# Altium footprint library smartbox1.PcbLib: 12 footprints
Each footprint in its own frame and in the unit in brackets; x right, y up, seen from the top. Pads: shape width x height; smd on the part's side, far side on the other; paste and mask are expansions set on the pad; w line width, h text height; cw(c..) or ccw(c..) is an arc to the next point about the centre after c.
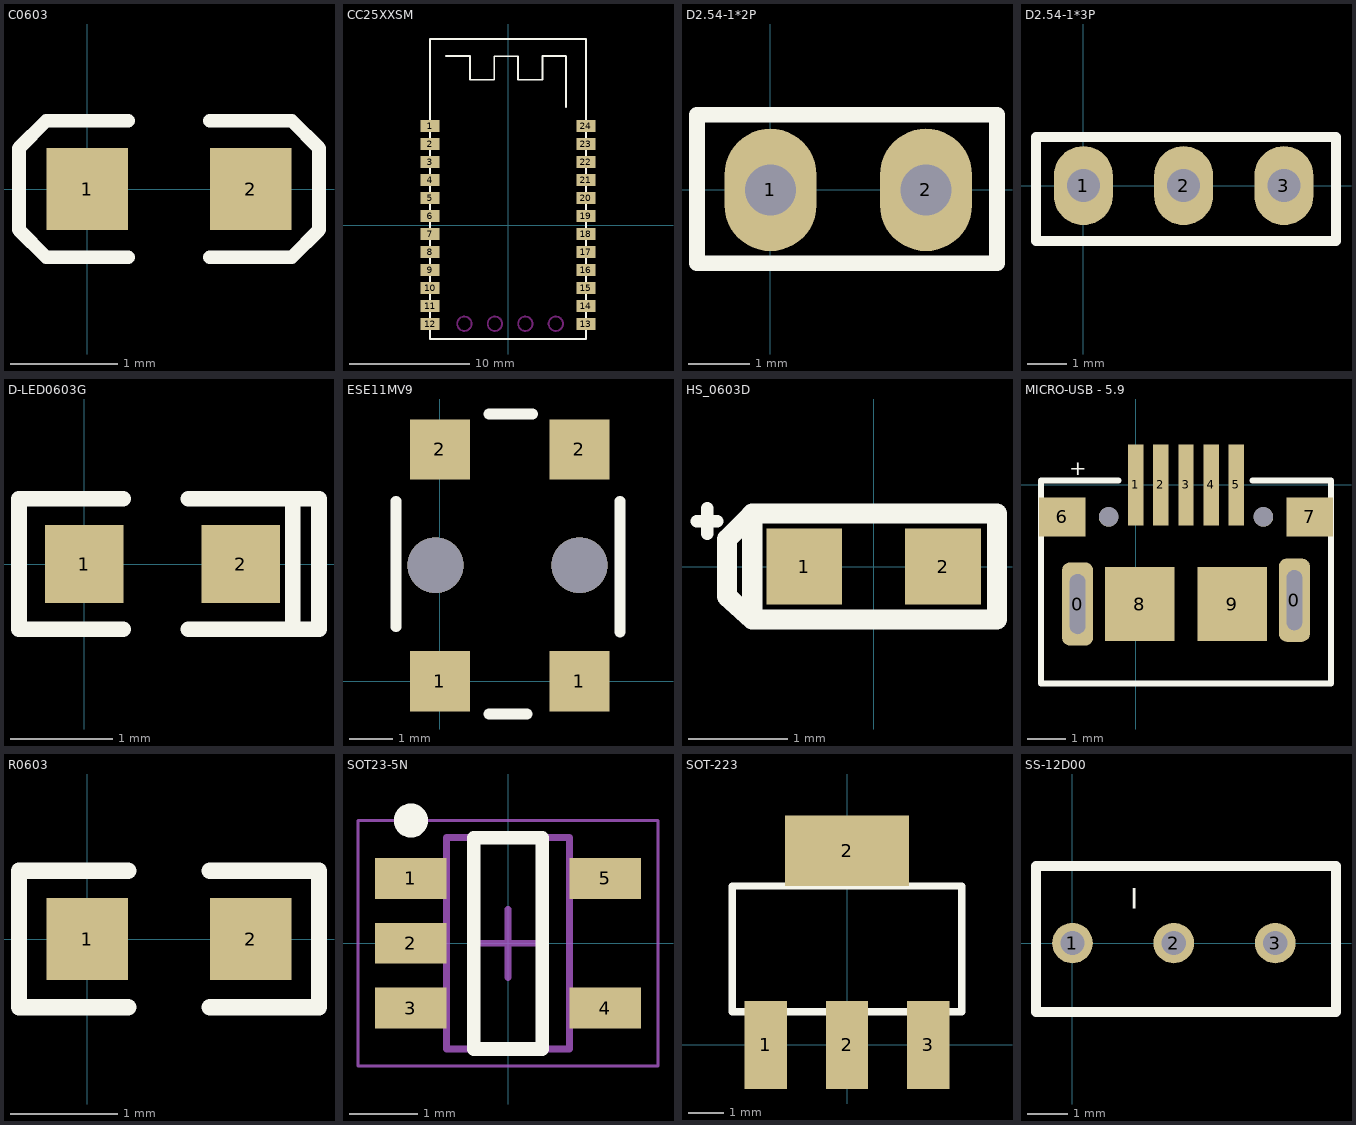
[diagram p0: the footprints below, top view; thin cyan lines are the x and y axes]

## C0603 [mil]
height 12
pads (2):
  rect 30x30 smd: 1(0,0) 2(60,0)
Top Overlay:
  lines w5: 15,-25 -15,-25 -25,-15 -25,15 -15,25 15,25 ; 45,-25 75,-25 85,-15 85,15 75,25 45,25
3D body "C0603.STEP": height 11.89, standoff 0, extent -1.5,-15.5 61.5,16

## CC25XXSM [mm]
pads (24):
  rect 1.6x1 smd: 1(-6.5,8.25) 2(-6.5,6.75) 3(-6.5,5.25) 4(-6.5,3.75) 5(-6.5,2.25) 6(-6.5,0.75) 7(-6.5,-0.75) 8(-6.5,-2.25) 9(-6.5,-3.75) 10(-6.5,-5.25) 11(-6.5,-6.75) 12(-6.5,-8.25) 13(6.5,-8.25) 14(6.5,-6.75) 15(6.5,-5.25) 16(6.5,-3.75) 17(6.5,-2.25) 18(6.5,-0.75) 19(6.5,0.75) 20(6.5,2.25) 21(6.5,3.75) 22(6.5,5.25) 23(6.5,6.75) 24(6.5,8.25)
Top Overlay:
  lines w0.152: -6.502,-9.5 -6.502,15.5 ; -6.5,-9.5 6.5,-9.5 ; -6.5,15.5 6.5,15.5 ; -5.165,14.086 -3.158,14.086 -3.158,12.105 -1.152,12.105 -1.152,14.06 0.83,14.06 0.83,12.105 2.862,12.105 2.862,14.086 4.817,14.086 4.843,14.06 4.843,9.844 ; 6.502,-9.5 6.502,15.5
Keep-Out Layer:
  circle w0.152: c-3.635,-8.23 r0.6
  circle w0.152: c-1.095,-8.23 r0.6
  circle w0.152: c1.445,-8.23 r0.6
  circle w0.152: c3.985,-8.23 r0.6

## D2.54-1*2P [mm]
pads (2):
  oval 1.5x2 hole 0.838: 1(0,0) 2(2.54,0)
Top Overlay:
  lines w0.254: -1.2,-1.2 -1.2,1.23 3.7,1.23 3.7,0.573 3.7,-0.743 3.7,-1.2 -1.2,-1.2
3D body: height 2.54, standoff 0, extent -1.1,-1.3 3.6,1.24
3D body: height 10, standoff -4, extent 2.142,-0.399 2.939,0.399
3D body: height 10, standoff -4, extent -0.398,-0.399 0.399,0.399

## D2.54-1*3P [mm]
pads (3):
  oval 1.5x2 hole 0.838: 1(0,0) 2(2.54,0) 3(5.08,0)
Top Overlay:
  lines w0.254: -1.2,-1.4 -1.2,1.23 6.4,1.23 6.4,-1.4 -1.2,-1.4
3D body: height 2.54, standoff 0, extent -1.1,-1.376 6.3,1.23
3D body: height 10, standoff -4, extent 4.682,-0.399 5.479,0.399
3D body: height 10, standoff -4, extent 2.142,-0.399 2.939,0.399
3D body: height 10, standoff -4, extent -0.398,-0.399 0.399,0.399

## D-LED0603G [mil]
height 39.37
pads (2):
  rect 30x30 smd: 1(0,0) 2(60,0)
Top Overlay:
  lines w6: 15,-25 -25,-25 -25,25 15,25 ; 40,-25 90,-25 90,25 40,25 ; 80,-25 80,25
3D body "LED_0603_GREEN.STEP": height 23.62, standoff 0, extent -1.89,-16.5 61.89,15

## ESE11MV9 [mm]
pads (4):
  rect 1.4x1.4 smd: 1(0,0) 1(3.25,0) 2(0,5.4) 2(3.25,5.4)
via 3.25,2.7 diameter 1.3 hole 1.3
via -0.1,2.7 diameter 1.3 hole 1.3
Top Overlay:
  lines w0.254: -1.016,1.27 -1.016,4.191 ; 1.143,-0.762 2.032,-0.762 ; 1.143,6.223 2.159,6.223 ; 4.191,1.143 4.191,4.191

## HS_0603D [mil]
height 100
pads (2):
  rect 30x30 smd: 1(-27.5,0) 2(27.5,0)
Top Overlay:
  lines w5: -70,18 -62,18 ; -66,13 -66,23
  lines w8: -49,20 -58.12,10.88 -58.12,-11.87 -48.12,-21 ; -48.12,20 -48.12,-21 ; -48.12,21 48.88,21 48.88,-21 -48.12,-21

## MICRO-USB - 5.9 [mm]
pads (13):
  rrect50% 0.8x2.15 hole 0.4 slot 1.55 at 90 deg: 0(-1.5,-3.075) 0(4.1,-2.975)
  rect 0.4x2.1 smd: 1(0,0) 2(0.65,0) 3(1.3,0) 4(1.95,0) 5(2.6,0)
  rect 1.2x1 smd: 6(-1.9,-0.825) 7(4.5,-0.825)
  rect 1.8x1.9 smd: 8(0.106,-3.075) 9(2.493,-3.075)
  round 0.5 hole 0.5 unplated: ""(-0.7,-0.825) ""(3.3,-0.825)
Top Overlay:
  lines w0.152: -0.443,0.118 -2.45,0.118 -2.45,-5.132 5.05,-5.132 5.05,0.118 3.019,0.118
  text "+" at -1.713,0.252 h0.4

## R0603 [mil]
height 12
pads (2):
  rect 30x30 smd: 1(0,0) 2(60,0)
Top Overlay:
  lines w6: 15,-25 -25,-25 -25,25 15,25 ; 45,-25 85,-25 85,25 45,25
3D body "R0603.STEP": height 17.72, standoff 0, extent -0.5,-16 62.5,15.5

## SOT23-5N [mm] "SOT23, 5-Leads, Body 2.90x2.70mm, Pitch 0.95mm, IPC Medium Density"
height 1.45
pads (5):
  rect 1.05x0.6 smd: 1(-1.425,0.95) 2(-1.425,0) 3(-1.425,-0.95) 4(1.425,-0.95) 5(1.425,0.95)
Top Overlay:
  circle w0.25: c-1.425,1.8 r0.125
  lines w0.2: -0.5,-1.55 0.5,-1.55 0.5,1.55 -0.5,1.55 -0.5,-1.55
Mechanical 13:
  lines w0.1: -0.9,-1.55 -0.9,1.55 0.9,1.55 0.9,-1.55 -0.9,-1.55
Mechanical 15:
  lines w0.05: -2.2,-1.8 -2.2,1.8 2.2,1.8 2.2,-1.8 -2.2,-1.8
  lines w0.1: -0.5,0 0.5,0 ; 0,-0.5 0,0.5
3D body: height 1.45, standoff 0.15, extent -0.9,-1.55 0.9,1.55

## SOT-223 [mm]
pads (4):
  rect 1.2x2.5 smd: 1(-2.3,0) 2(0,0) 3(2.3,0)
  rect 3.5x2 smd: 2(0,5.5)
Top Overlay:
  lines w0.203: -3.25,0.94 3.25,0.94 3.25,4.5 -3.25,4.5 -3.25,0.94

## SS-12D00 [mm] "SS-12D00(1P2T) 立式 柄高5MM"
pads (3):
  round 1 hole 0.6: 1(0,0) 2(2.5,0) 3(5,0)
Top Overlay:
  lines w0.254: -0.9,-1.7 -0.9,1.9 6.5,1.9 6.5,-1.7 -0.9,-1.7
  text "I" at 1.425,0.85 h0.5